# Altium footprint library 6U6DA_1229.PcbLib: 49 footprints (part 4 of 4)
Each footprint in its own frame and in the unit in brackets; x right, y up, seen from the top. Pads: shape width x height; smd on the part's side, far side on the other; paste and mask are expansions set on the pad; w line width, h text height; cw(c..) or ccw(c..) is an arc to the next point about the centre after c.
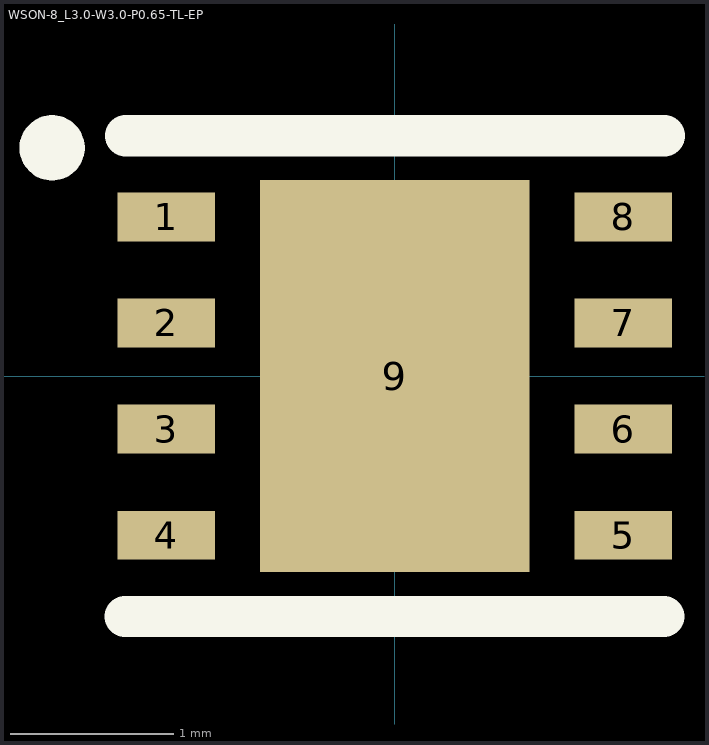
[diagram p3: the footprint, top view; thin cyan lines are the x and y axes]

## WSON-8_L3.0-W3.0-P0.65-TL-EP [mm]
pads (9):
  rect 0.6x0.3 smd: 1(-1.4,0.975) 2(-1.4,0.325) 3(-1.4,-0.325) 4(-1.4,-0.975) 5(1.4,-0.975) 6(1.4,-0.325) 7(1.4,0.325) 8(1.4,0.975)
  rect 1.65x2.4 smd: 9(0,0)
Top Overlay:
  lines w0.2: -1.999,1.397 cw(c-2.099,1.398) -1.999,1.4
  lines w0.254: -1.651,-1.473 1.649,-1.473 ; -1.649,1.473 1.651,1.473